# Altium footprint library SD.PcbLib: 1 footprints
Each footprint in its own frame and in the unit in brackets; x right, y up, seen from the top. Pads: shape width x height; smd on the part's side, far side on the other; paste and mask are expansions set on the pad; w line width, h text height; cw(c..) or ccw(c..) is an arc to the next point about the centre after c.
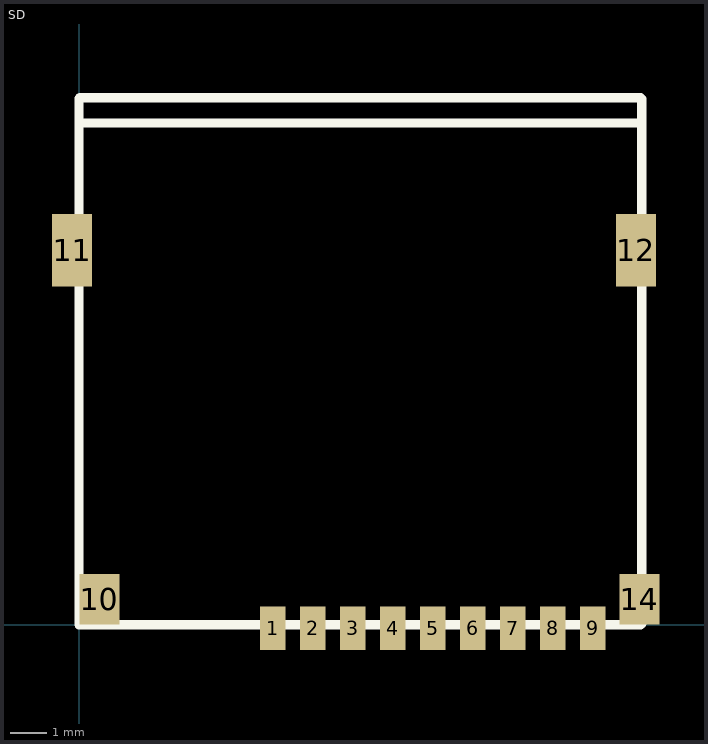
[diagram p0: the footprint, top view; thin cyan lines are the x and y axes]

## SD [mm]
pads (13):
  rect 0.7x1.2 smd: 1(5.31,-0.1) 2(6.41,-0.1) 3(7.51,-0.1) 4(8.61,-0.1) 5(9.71,-0.1) 6(10.81,-0.1) 7(11.91,-0.1) 8(13.01,-0.1) 9(14.11,-0.1)
  rect 1.1x1.4 smd: 10(0.55,0.7) 14(15.4,0.7)
  rect 1.1x2 smd: 11(-0.2,10.3) 12(15.3,10.3)
Top Overlay:
  lines w0.254: 0,13.8 15.38,13.8 ; -0.01,0 -0.01,14.47 0.01,14.49 15.43,14.49 15.46,14.46 15.46,0.03 15.43,0 -0.01,0